# Altium footprint library TSSOP.PcbLib: 7 footprints
Each footprint in its own frame and in the unit in brackets; x right, y up, seen from the top. Pads: shape width x height; smd on the part's side, far side on the other; paste and mask are expansions set on the pad; w line width, h text height; cw(c..) or ccw(c..) is an arc to the next point about the centre after c.
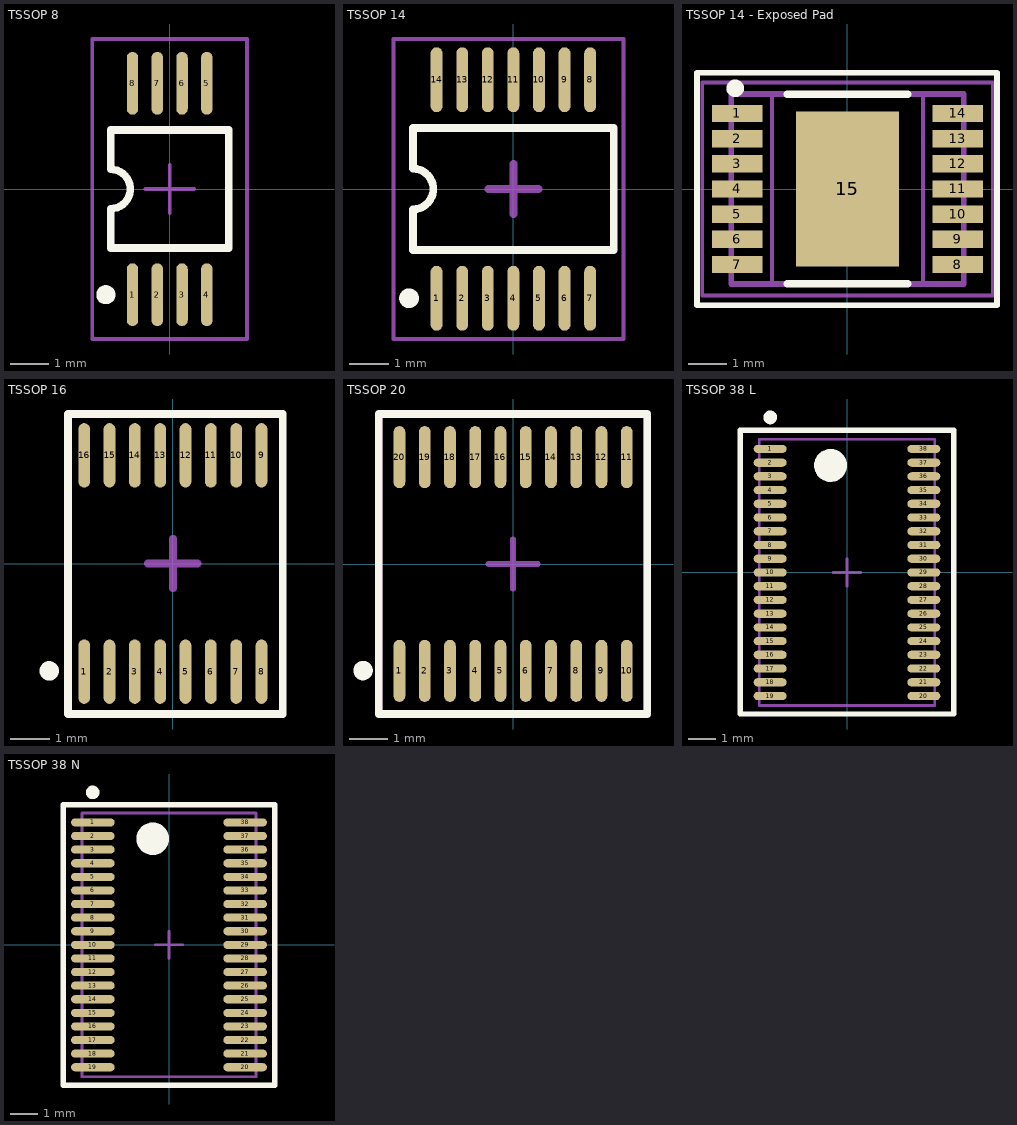
[diagram p0: the footprints below, top view; thin cyan lines are the x and y axes]

## TSSOP 8 [mm] "Shrink Small Outline, Plastic, Thin; 8 Leads; Body Width 4.4 mm; Pitch 0.65 mm"
height 1.1
pads (8):
  oval 0.3x1.65 smd: 1(-0.975,-2.775) 2(-0.325,-2.775) 3(0.325,-2.775) 4(0.975,-2.775) 5(0.975,2.775) 6(0.325,2.775) 7(-0.325,2.775) 8(-0.975,2.775)
Top Overlay:
  circle w0.25: c-1.675,-2.775 r0.125
  lines w0.2: -1.55,-1.55 1.55,-1.55 1.55,1.55 -1.55,1.55 -1.55,0.517 cw(c-1.55,0) -1.55,-0.517 -1.55,-1.55
Mechanical 15:
  lines w0.1: -0.635,0 0.635,0 ; 0,-0.635 0,0.635 ; -2.032,-3.937 -2.032,3.937 2.032,3.937 2.032,-3.937 -2.032,-3.937
3D body "User Library-tsop8.step": height 1.2, standoff 0, extent -1.55,-3.2 1.55,3.2

## TSSOP 14 [mm] "Shrink Small Outline; 14 Leads; Body Width 4.4 mm; Pitch 0.65 mm"
height 1.1
pads (14):
  oval 0.3x1.65 smd: 1(-1.95,-2.775) 2(-1.3,-2.775) 3(-0.65,-2.775) 4(0,-2.775) 5(0.65,-2.775) 6(1.3,-2.775) 7(1.95,-2.775) 8(1.95,2.775) 9(1.3,2.775) 10(0.65,2.775) 11(0,2.775) 12(-0.65,2.775) 13(-1.3,2.775) 14(-1.95,2.775)
Top Overlay:
  circle w0.25: c-2.65,-2.775 r0.125
  lines w0.2: -2.55,-1.55 2.55,-1.55 2.55,1.55 -2.55,1.55 -2.55,0.517 cw(c-2.55,0) -2.55,-0.517 -2.55,-1.55
Mechanical 15:
  lines w0.1: -3.048,-3.81 -3.048,3.81 2.794,3.81 2.794,-3.81 -3.048,-3.81
  lines w0.2: -0.635,0 0.635,0 ; 0,-0.635 0,0.635
3D body "User Library-TSSOP14-1.step": height 1.1, standoff 0, extent -2.5,-3.2 2.5,3.2

## TSSOP 14 - Exposed Pad [mm] "SOP,0.65mm pitch;14 pin,3.90mm W X 4.90mm L X 1.15mm H body (w/thermal tab)"
height 1.15
pads (15):
  rect 1.31x0.45 smd paste+0 mask+0: 1(-2.85,1.95) 2(-2.85,1.3) 3(-2.85,0.65) 4(-2.85,0) 5(-2.85,-0.65) 6(-2.85,-1.3) 7(-2.85,-1.95) 8(2.85,-1.95) 9(2.85,-1.3) 10(2.85,-0.65) 11(2.85,0) 12(2.85,0.65) 13(2.85,1.3) 14(2.85,1.95)
  rect 2.65x4 smd paste-2.65 mask+0: 15(0,0)
Top Overlay:
  circle w0.254: c-2.9,2.6 r0.1
  lines w0.15: -3.886,-3 -3.886,3 3.861,3 3.861,-3 -3.886,-3
  lines w0.2: -1.55,-2.45 1.55,-2.45 ; -1.55,2.45 1.55,2.45
Top Paste:
  region: -1.325,-2 1.325,-2 1.325,-0.15 -1.325,-0.15
  region: 1.325,2 -1.325,2 -1.325,0.15 1.325,0.15
Mechanical 1:
  lines w0.15: -3,-2.45 -3,2.45 3,2.45 3,-2.45 -3,-2.45
Mechanical 13:
  lines w0.1: -1.95,-2.45 -1.95,2.45 1.95,2.45 1.95,-2.45 -1.95,-2.45
Mechanical 15:
  lines w0.1: -0.5,0 0.5,0 ; 0,-0.5 0,0.5 ; -3.75,-2.75 -3.75,2.75 3.75,2.75 3.75,-2.75 -3.75,-2.75
3D body "PG-TSDSO-14-22.stp": height 1.16, standoff 0, extent -3,-2.45 3,2.45

## TSSOP 16 [mm] "Shrink Small Outline; 16 Leads; Body Width 4.4 mm; Pitch 0.65 mm"
height 1.1
pads (16):
  oval 0.3x1.65 smd: 1(-2.275,-2.775) 2(-1.625,-2.775) 3(-0.975,-2.775) 4(-0.325,-2.775) 5(0.325,-2.775) 6(0.975,-2.775) 7(1.625,-2.775) 8(2.275,-2.775) 9(2.275,2.775) 10(1.625,2.775) 11(0.975,2.775) 12(0.325,2.775) 13(-0.325,2.775) 14(-0.975,2.775) 15(-1.625,2.775) 16(-2.275,2.775)
Top Overlay:
  circle w0.25: c-3.173,-2.756 r0.125
  lines w0.2: -2.692,-3.861 -2.692,3.835 2.819,3.835 2.819,-3.861 -2.692,-3.861
Mechanical 15:
  lines w0.1: -2.692,-3.861 -2.692,3.835 2.819,3.835 2.819,-3.861 -2.692,-3.861
  lines w0.2: -0.635,0 0.635,0 ; 0,-0.635 0,0.635
3D body "User Library-AS3933-BTST.STEP": height 1.06, standoff -0.01, extent -2.55,-3.25 2.55,3.25

## TSSOP 20 [mm] "Shrink Small Outline; 20 Leads; Body Width 4.4 mm; Pitch 0.65 mm"
height 1.1
pads (20):
  oval 0.3x1.6 smd: 1(-2.925,-2.75) 2(-2.275,-2.75) 3(-1.625,-2.75) 4(-0.975,-2.75) 5(-0.325,-2.75) 6(0.325,-2.75) 7(0.975,-2.75) 8(1.625,-2.75) 9(2.275,-2.75) 10(2.925,-2.75) 11(2.925,2.75) 12(2.275,2.75) 13(1.625,2.75) 14(0.975,2.75) 15(0.325,2.75) 16(-0.325,2.75) 17(-0.975,2.75) 18(-1.625,2.75) 19(-2.275,2.75) 20(-2.925,2.75)
Top Overlay:
  circle w0.25: c-3.861,-2.743 r0.125
  lines w0.2: -3.454,-3.861 -3.454,3.861 3.454,3.861 3.454,-3.861 -3.454,-3.861
Mechanical 15:
  lines w0.1: -3.413,-3.861 -3.413,3.861 3.404,3.861 3.404,-3.861 -3.413,-3.861
  lines w0.15: -0.635,0 0.635,0 ; 0,-0.635 0,0.635
3D body "User Library-tssop-20-1.step": height 1.2, standoff 0, extent -3.3,-3.3 3.3,3.3

## TSSOP 38 L [mm] "SOP, 38-Leads, Body 9.7x4.4mm, Pitch 0.5mm, IPC Medium Density"
height 1.2
pads (38):
  oval 1.2x0.3 smd: 1(-2.8,4.5) 2(-2.8,4) 3(-2.8,3.5) 4(-2.8,3) 5(-2.8,2.5) 6(-2.8,2) 7(-2.8,1.5) 8(-2.8,1) 9(-2.8,0.5) 10(-2.8,0) 11(-2.8,-0.5) 12(-2.8,-1) 13(-2.8,-1.5) 14(-2.8,-2) 15(-2.8,-2.5) 16(-2.8,-3) 17(-2.8,-3.5) 18(-2.8,-4) 19(-2.8,-4.5) 20(2.8,-4.5) 21(2.8,-4) 22(2.8,-3.5) 23(2.8,-3) 24(2.8,-2.5) 25(2.8,-2) 26(2.8,-1.5) 27(2.8,-1) 28(2.8,-0.5) 29(2.8,0) 30(2.8,0.5) 31(2.8,1) 32(2.8,1.5) 33(2.8,2) 34(2.8,2.5) 35(2.8,3) 36(2.8,3.5) 37(2.8,4) 38(2.8,4.5)
Top Overlay:
  circle w0.25: c-2.794,5.647 r0.125
  circle w0.6: c-0.6,3.9 r0.3
  lines w0.2: -3.886,-5.155 -3.886,5.182 3.886,5.182 3.886,-5.155 -3.886,-5.155
Mechanical 1:
  circle w0.1: c-0.6,3.9 r0.5
  lines w0.1: -3.2,-4.85 3.2,-4.85 3.2,4.85 -3.2,4.85 -3.2,-4.85
Mechanical 15:
  lines w0.1: -0.5,0 0.5,0 ; 0,-0.5 0,0.5 ; -3.85,-5.15 -3.85,5.15 3.85,5.15 3.85,-5.15 -3.85,-5.15
3D body "User Library-TSSOP-38-1.STEP": height 1.2, standoff 0, extent -3.2,-4.85 3.2,4.85

## TSSOP 38 N [mm] "SOP, 38-Leads, Body 9.7x4.4mm, Pitch 0.5mm, IPC Medium Density"
height 1.2
pads (38):
  oval 1.6x0.3 smd: 1(-2.8,4.5) 2(-2.8,4) 3(-2.8,3.5) 4(-2.8,3) 5(-2.8,2.5) 6(-2.8,2) 7(-2.8,1.5) 8(-2.8,1) 9(-2.8,0.5) 10(-2.8,0) 11(-2.8,-0.5) 12(-2.8,-1) 13(-2.8,-1.5) 14(-2.8,-2) 15(-2.8,-2.5) 16(-2.8,-3) 17(-2.8,-3.5) 18(-2.8,-4) 19(-2.8,-4.5) 20(2.8,-4.5) 21(2.8,-4) 22(2.8,-3.5) 23(2.8,-3) 24(2.8,-2.5) 25(2.8,-2) 26(2.8,-1.5) 27(2.8,-1) 28(2.8,-0.5) 29(2.8,0) 30(2.8,0.5) 31(2.8,1) 32(2.8,1.5) 33(2.8,2) 34(2.8,2.5) 35(2.8,3) 36(2.8,3.5) 37(2.8,4) 38(2.8,4.5)
Top Overlay:
  circle w0.25: c-2.807,5.604 r0.125
  circle w0.6: c-0.6,3.9 r0.3
  lines w0.2: -3.886,-5.156 -3.886,5.156 3.886,5.156 3.886,-5.156 -3.886,-5.156
Mechanical 1:
  circle w0.1: c-0.6,3.9 r0.5
  lines w0.1: -3.2,-4.85 3.2,-4.85 3.2,4.85 -3.2,4.85 -3.2,-4.85
Mechanical 15:
  lines w0.1: -0.5,0 0.5,0 ; 0,-0.5 0,0.5 ; -3.85,-5.15 -3.85,5.15 3.85,5.15 3.85,-5.15 -3.85,-5.15
3D body "User Library-TSSOP-38-1.STEP": height 1.2, standoff 0, extent -3.2,-4.85 3.2,4.85